# EAGLE library part ADP3110 (library MyComponents)
Dual Bootstrapped, 12V MOSFET Driver with Output Disable
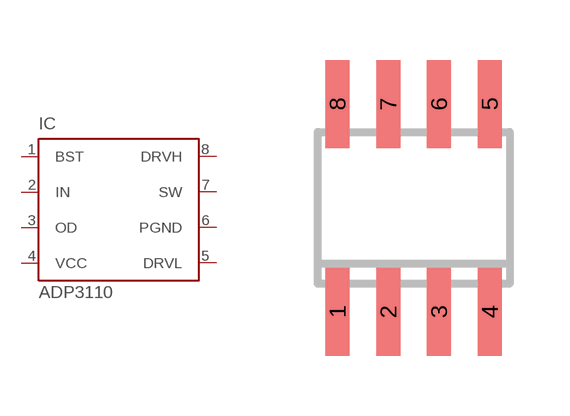
[diagram p0: symbol with the pads of SO-08; footprint SO-08]

Designator prefix IC

## ADP3110 (OC_FARNELL: unknown; OC_NEWARK: unknown)  [SO-08]
1  BST  in
2  IN  in
3  OD  in
4  VCC  in
5  DRVL  in
6  PGND  pwr
7  SW  out
8  DRVH  in

## Footprint SO-08 (pad centres in mm)
Small Outline Narrow Plastic Gull Wing SOIC8, JEDEC MS-012 AA, 150-mil body, package type SN
smd 0.6 x 2.2: 1 -1.905,-2.6; 2 -0.635,-2.6; 3 0.635,-2.6; 4 1.905,-2.6; 5 1.905,2.6; 6 0.635,2.6; 7 -0.635,2.6; 8 -1.905,2.6